# EAGLE library part ME50-868 (library X893)
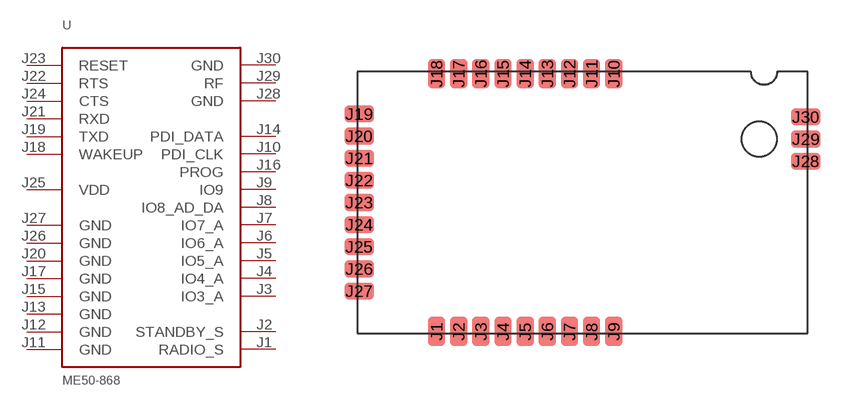
[diagram p160: symbol with the pads of TELIT-XE50; footprint TELIT-XE50]

Designator prefix U

## ME50-868  [TELIT-XE50]
J1  RADIO_S  out
J2  STANDBY_S  out
J3  IO3_A
J4  IO4_A
J5  IO5_A
J6  IO6_A
J7  IO7_A
J8  IO8_AD_DA
J9  IO9
J10  PDI_CLK  in
J11  GND  sup
J12  GND  sup
J13  GND  sup
J14  PDI_DATA
J15  GND  sup
J16  PROG  in
J17  GND  sup
J18  WAKEUP  in
J19  TXD  out
J20  GND  sup
J21  RXD  in
J22  RTS  out
J23  RESET  in
J24  CTS  in
J25  VDD  pwr
J26  GND  sup
J27  GND  sup
J28  GND  sup
J29  RF  pas
J30  GND  sup

## Footprint TELIT-XE50 (pad centres in mm)
http://www.telit.com/module/infopool/download.php?id=3636
smd 1 x 1.7: J1 -8.37,-7.4; J2 -7.1,-7.4; J3 -5.83,-7.4; J4 -4.56,-7.4; J5 -3.29,-7.4; J6 -2.02,-7.4; J7 -0.75,-7.4; J8 0.52,-7.4; J9 1.79,-7.4; J10 1.79,7.4; J11 0.52,7.4; J12 -0.75,7.4; J13 -2.02,7.4; J14 -3.29,7.4; J15 -4.56,7.4; J16 -5.83,7.4; J17 -7.1,7.4; J18 -8.37,7.4
smd 1.7 x 1: J19 -12.803,5.08; J20 -12.803,3.81; J21 -12.803,2.54; J22 -12.803,1.27; J23 -12.803,0; J24 -12.803,-1.27; J25 -12.803,-2.54; J26 -12.803,-3.81; J27 -12.803,-5.08; J28 12.797,2.37; J29 12.797,3.64; J30 12.797,4.91